# EAGLE library part 6DE6 (library tubes_pmillett)
Pentode, 7-pin-mini, 6CB6, 6DK6, etc.
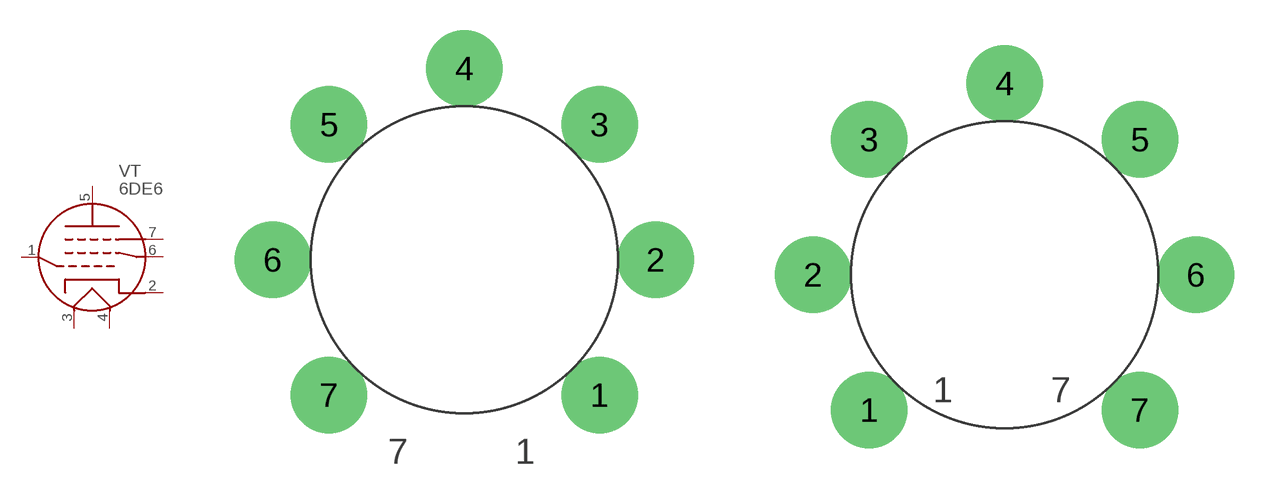
[diagram p121: symbol with the pads of MINI7_PCB; footprints MINI7_PCB, MINI7_PCB_BOT]

Designator prefix VT

## 6DE6_TOP  [MINI7_PCB]
1  G1  pas
2  K  pas
3  H1  pas
4  H2  pas
5  P  pas
6  G2  pas
7  G3  pas

## 6DE6_BOT  [MINI7_PCB_BOT]
Pads as for MINI7_PCB

## Footprint MINI7_PCB (pad centres in mm)
TUBE SOCKET, 7-PIN MINI, .75 CIRCLE
drill 1.93 pad 3.81: 1 6.731,-6.731; 2 9.525,0; 3 6.731,6.731; 4 0,9.525; 5 -6.731,6.731; 6 -9.525,0; 7 -6.731,-6.731

## Footprint MINI7_PCB_BOT (pad centres in mm)
Standard 7-pin-mini PCB socket, mounted backside
drill 1.93 pad 3.81: 1 -6.731,-6.731; 2 -9.525,0; 3 -6.731,6.731; 4 0,9.525; 5 6.731,6.731; 6 9.525,0; 7 6.731,-6.731